# Altium schematic symbol library M_CON1_BANANA_JACK.Schlib: 1 symbol
Pins are listed as number, name and electrical type; pins without a type are passive.

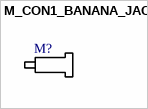
[diagram p0: symbol M_CON1_BANANA_JACK]

## M_CON1_BANANA_JACK
designator M?  (mechanical)